# Altium schematic symbol library Res.SchLib: 1 symbol
Pins are listed as number, name and electrical type; pins without a type are passive.

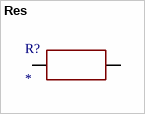
[diagram p0: symbol Res]

## Res
designator R?
footprint Res 1
pins: 1, 2